# Altium footprint library Connectors.PcbLib: 81 footprints (part 1 of 6)
Each footprint in its own frame and in the unit in brackets; x right, y up, seen from the top. Pads: shape width x height; smd on the part's side, far side on the other; paste and mask are expansions set on the pad; w line width, h text height; cw(c..) or ccw(c..) is an arc to the next point about the centre after c.
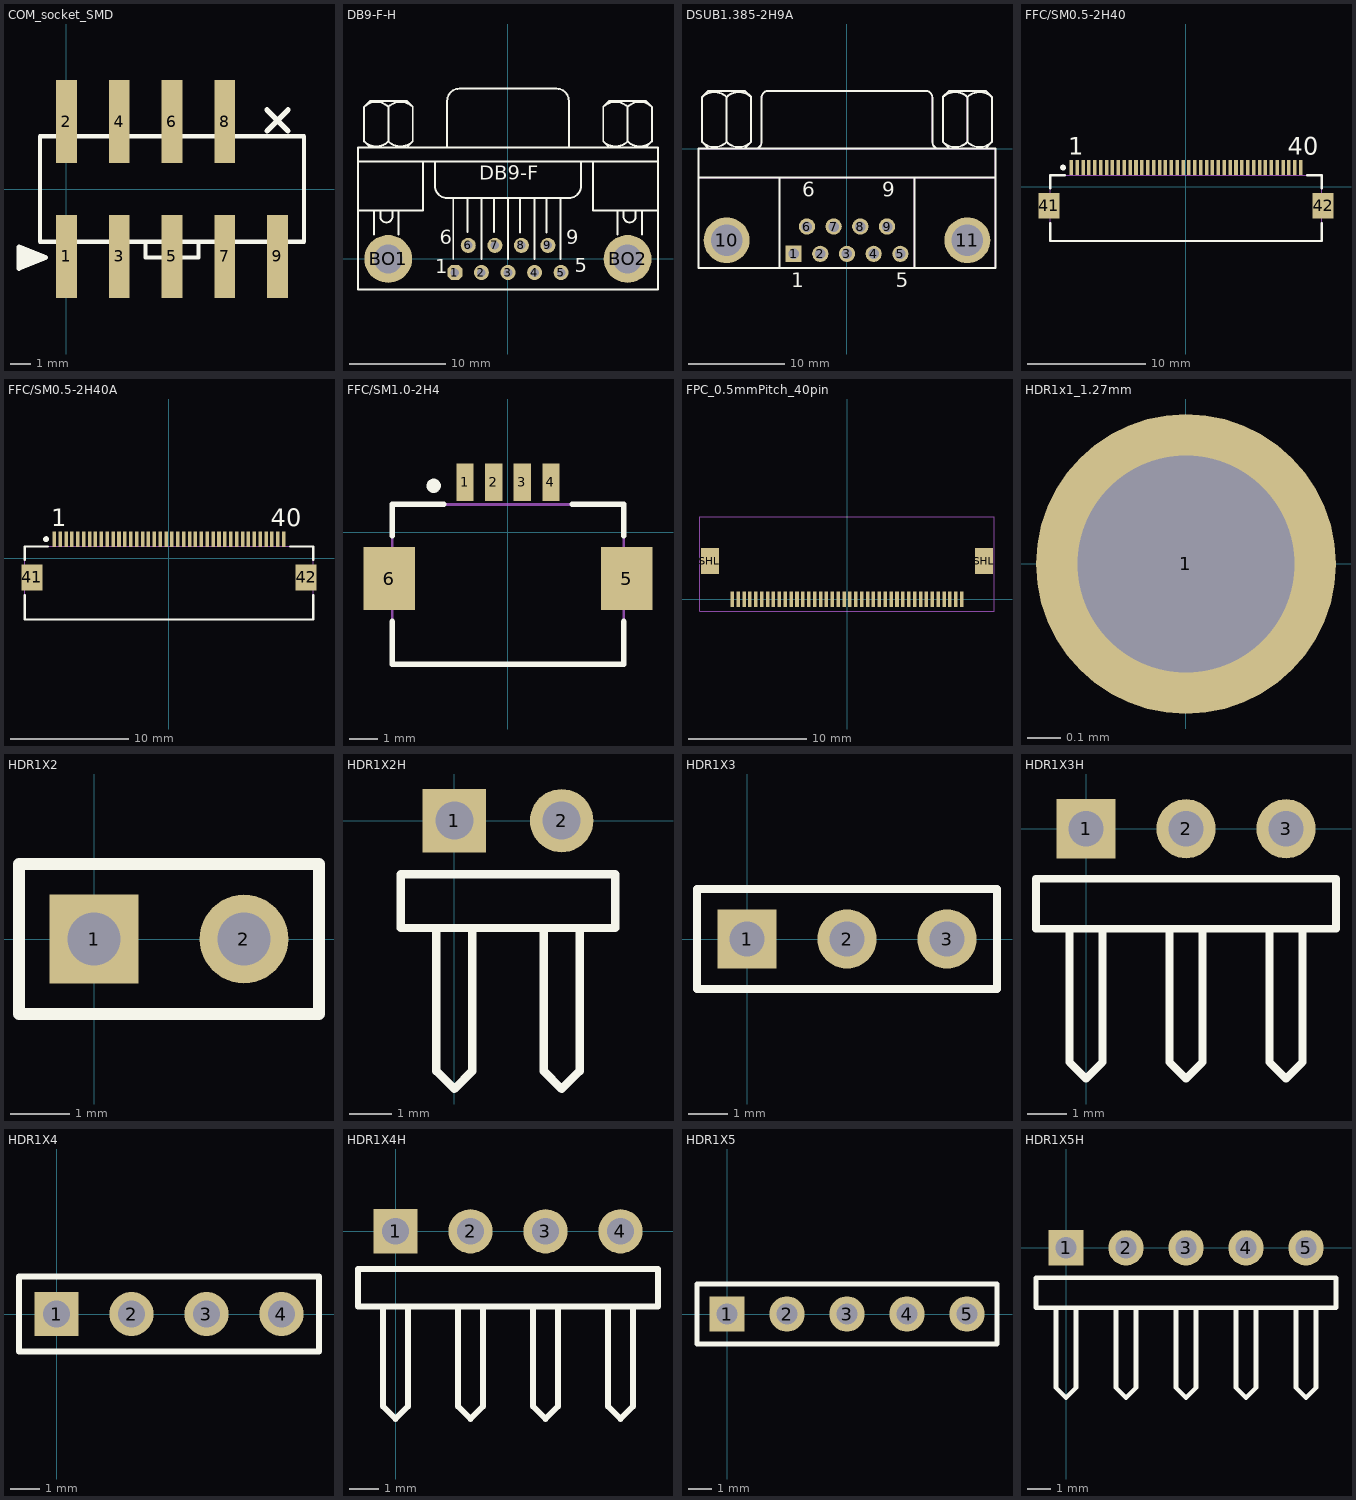
[diagram p0: the footprints below, top view; thin cyan lines are the x and y axes]

## COM_socket_SMD [mm] "surface mount 9pin serial COM socket"
pads (9):
  rect 1x4 smd: 1(0,-3.24) 2(0,3.24) 3(2.54,-3.24) 4(2.54,3.24) 5(5.08,-3.24) 6(5.08,3.24) 7(7.62,-3.24) 8(7.62,3.24) 9(10.16,-3.24)
Top Overlay:
  lines w0.2: 3.81,-2.54 3.81,-3.302 6.35,-3.302 6.35,-2.54 ; -1.27,-2.54 -1.27,2.54 11.43,2.54 11.43,-2.54 -1.27,-2.54
  lines w0.254: -2.286,-3.556 -1.016,-3.302 ; -2.286,-3.302 -1.016,-3.302 ; -2.286,-3.048 -1.016,-3.302 ; 9.652,2.794 10.668,3.81 ; 9.652,3.81 10.668,2.794 ; -1.016,-3.302 -2.286,-3.81 -2.286,-2.794 -1.016,-3.302

## DB9-F-H [mil]
pads (11):
  oct 62x62 hole 35: 1(-217.92,-55.83)
  round 62 hole 35: 2(-108.75,-55.83) 3(0.42,-55.83) 4(109.58,-55.83) 5(218.75,-55.83) 6(-162.92,55.83) 7(-53.75,55.83) 8(55.42,55.83) 9(164.58,55.83)
  round 196.67 hole 118.33: BO1(-492.08,0) BO2(492.08,0)
Top Overlay:
  lines w8: -616.25,200 -349.58,200 -349.58,400 ; -616.25,400 617.08,400 ; -591.34,483.25 ccw(c-541.25,533.33) -491.16,483.25 ; -591.34,625.09 cw(c-541.25,575) -491.16,625.09 ; -566.25,458.33 -591.25,483.33 -591.25,625 -566.25,650 -416.25,650 -391.25,625 -391.25,483.33 -416.25,458.33 ; -549.58,100 -549.58,200 ; -524.58,200 -524.58,175 ccw(c-499.58,175) -474.58,175 -474.58,200 ; -491.34,483.25 ccw(c-441.25,533.33) -391.16,483.25 ; -491.34,625.09 cw(c-441.25,575) -391.16,625.09 ; -491.25,483.33 -491.25,625 ; -449.58,100 -449.58,200 ; -299.58,400 -299.58,300 ccw(c-249.58,300) -249.58,250 250.42,250 ccw(c250.42,300) 300.42,300 300.42,400 ; -249.58,458.33 -249.58,650 cw(c-199.58,650) -199.58,700 175.42,700 200.42,700 cw(c200.42,650) 250.42,650 250.42,458.33 ; -224.58,0 -224.58,250 ; -166.25,110.24 -166.25,250 ; -107.92,0 -107.92,250 ; -57.92,110.24 -57.92,250 ; 0.42,0 0.42,250 ; 50.42,108.27 50.42,250 ; 108.75,0 108.75,250 ; 158.75,108.27 158.75,250 ; 217.08,0 217.08,250 ; 350.42,400 350.42,200 617.08,200 ; 392,483.25 ccw(c442.08,533.33) 492.17,483.25 ; 392,625.09 cw(c442.08,575) 492.17,625.09 ; 417.08,458.33 392.08,483.33 392.08,625 417.08,650 567.08,650 592.08,625 592.08,483.33 567.08,458.33 ; 450.42,100 450.42,200 ; 475.42,200 475.42,175 ccw(c500.42,175) 525.42,175 525.42,200 ; 492,483.25 ccw(c542.08,533.33) 592.17,483.25 ; 492,625.09 cw(c542.08,575) 592.17,625.09 ; 492.08,483.33 492.08,625 ; 550.42,100 550.42,200 ; -616.25,-125 -616.25,458.33 617.08,458.33 617.08,-125 -616.25,-125
  text "6" at -279.58,40 h100
  text "1" at -299.58,-80 h100
  text "5" at 275.59,-74.8 h100
  text "9" at 240.42,40 h100
  text "DB9-F" at -118.11,305.12 h100

## DSUB1.385-2H9A [mm] "Connector; D Subminiature AMPLIMITE 2000; 9 Position; Right Angle"
height 12.75
pads (11):
  rect 1.69x1.69 hole 1.09: 1(-5.54,-10.92)
  round 1.69 hole 1.09: 2(-2.77,-10.92) 3(0,-10.92) 4(2.77,-10.92) 5(5.54,-10.92) 6(-4.155,-8.08) 7(-1.385,-8.08) 8(1.385,-8.08) 9(4.155,-8.08)
  round 4.76 hole 3.26: 10(-12.495,-9.5) 11(12.495,-9.5)
Top Overlay:
  lines w0.2: -15.4,-3 15.4,-3 ; -15.038,5.35 -15.038,0.699 -14.403,0.064 ; -15.038,5.365 -14.403,6 -10.593,6 -9.958,5.365 ; -12.498,0.699 -12.498,5.35 ; -10.593,0.064 -9.958,0.699 -9.958,5.35 ; -9.958,4.086 -9.958,4.298 ; -9.56,0.005 ccw(c-9.56,0.7) -8.865,0.7 -8.865,5.3 ; -8.86,5.305 cw(c-8.165,5.305) -8.165,6 8.165,6 cw(c8.165,5.305) 8.86,5.305 ; -7,-12.4 -7,-3 ; 7,-12.4 7,-3 ; 8.865,5.3 8.865,0.7 ccw(c9.56,0.7) 9.56,0.005 ; 9.962,5.35 9.962,0.699 10.597,0.064 ; 9.962,5.365 10.597,6 14.407,6 15.042,5.365 ; 12.502,0.699 12.502,5.35 ; 14.407,0.064 15.042,0.699 15.042,5.35 ; 15.042,4.086 15.042,4.298 ; -15.4,-12.4 -15.4,0 15.4,0 15.4,-12.4 -15.4,-12.4
  lines w0.203: -15.04,0.697 ccw(c-13.768,1.969) -12.496,0.697 ; -15.038,5.35 cw(c-13.766,4.078) -12.493,5.35 ; -12.502,5.35 cw(c-11.23,4.078) -9.958,5.35 ; -12.5,0.697 ccw(c-11.228,1.969) -9.956,0.697 ; 9.96,0.697 ccw(c11.232,1.969) 12.504,0.697 ; 9.962,5.35 cw(c11.234,4.078) 12.507,5.35 ; 12.498,5.35 cw(c13.77,4.078) 15.042,5.35 ; 12.5,0.697 ccw(c13.772,1.969) 15.044,0.697
  text "1" at -5.79,-14.375 h1.5
  text "5" at 5.04,-14.375 h1.5
  text "9" at 3.655,-4.975 h1.5
  text "6" at -4.655,-4.975 h1.5
Mechanical 1:
  lines w0.1: -9.56,0.005 ccw(c-9.56,0.7) -8.865,0.7 ; -8.86,5.305 cw(c-8.165,5.305) -8.165,6 ; 8.165,6 cw(c8.165,5.305) 8.86,5.305 ; 8.865,0.7 ccw(c9.56,0.7) 9.56,0.005
Mechanical 13:
  lines w0.1: -15.4,-3 15.4,-3 ; -15.04,0.697 ccw(c-13.768,1.969) -12.496,0.697 ; -15.038,5.365 -14.403,6 -10.593,6 -9.958,5.365 ; -14.403,0.064 -15.038,0.699 -15.038,5.35 cw(c-13.766,4.078) -12.493,5.35 ; -12.502,5.35 cw(c-11.23,4.078) -9.958,5.35 -9.958,0.699 -10.593,0.064 ; -12.5,0.697 ccw(c-11.228,1.969) -9.956,0.697 ; -12.498,0.699 -12.498,5.35 ; -9.958,4.086 -9.958,4.298 ; -8.865,0.7 -8.865,5.3 ; -8.165,6 8.165,6 ; -7,-12.4 -7,-3 ; 7,-12.4 7,-3 ; 8.865,0.7 8.865,5.3 ; 9.96,0.697 ccw(c11.232,1.969) 12.504,0.697 ; 9.962,5.365 10.597,6 14.407,6 15.042,5.365 ; 10.597,0.064 9.962,0.699 9.962,5.35 cw(c11.234,4.078) 12.507,5.35 ; 12.498,5.35 cw(c13.77,4.078) 15.042,5.35 15.042,0.699 14.407,0.064 ; 12.5,0.697 ccw(c13.772,1.969) 15.044,0.697 ; 12.502,0.699 12.502,5.35 ; 15.042,4.086 15.042,4.298 ; -15.4,-12.4 -15.4,0 15.4,0 15.4,-12.4 -15.4,-12.4
3D body: height 12.75, standoff 0, extent 7.001,-12.399 15.399,-3.001
3D body: height 12.75, standoff 0, extent -15.399,-12.399 -7.001,-3.001
3D body: height 12.75, standoff 0, extent -6.999,-12.399 6.999,-3.001
3D body: height 12.75, standoff 0, extent -15.399,-2.999 15.399,-0.001
3D body: height 8.87, standoff 3.88, extent 9.953,0.064 14.934,6.064
3D body: height 8.87, standoff 3.88, extent -15.047,0.064 -10.066,6.064
3D body: height 10.87, standoff 1.88, extent -9,0 9,6

## FFC/SM0.5-2H40 [mm] "Connector; FH12 Series; 40 Position; 0.5mm Spaced Bottom Contact"
height 2
pads (42):
  rect 0.3x1.3 smd: 1(-9.75,1.625) 2(-9.25,1.625) 3(-8.75,1.625) 4(-8.25,1.625) 5(-7.75,1.625) 6(-7.25,1.625) 7(-6.75,1.625) 8(-6.25,1.625) 9(-5.75,1.625) 10(-5.25,1.625) 11(-4.75,1.625) 12(-4.25,1.625) 13(-3.75,1.625) 14(-3.25,1.625) 15(-2.75,1.625) 16(-2.25,1.625) 17(-1.75,1.625) 18(-1.25,1.625) 19(-0.75,1.625) 20(-0.25,1.625) 21(0.25,1.625) 22(0.75,1.625) 23(1.25,1.625) 24(1.75,1.625) 25(2.25,1.625) 26(2.75,1.625) 27(3.25,1.625) 28(3.75,1.625) 29(4.25,1.625) 30(4.75,1.625) 31(5.25,1.625) 32(5.75,1.625) 33(6.25,1.625) 34(6.75,1.625) 35(7.25,1.625) 36(7.75,1.625) 37(8.25,1.625) 38(8.75,1.625) 39(9.25,1.625) 40(9.75,1.625)
  rect 1.8x2.2 smd: 41(-11.65,-1.625) 42(11.65,-1.625)
Top Overlay:
  circle w0.25: c-10.45,1.625 r0.125
  lines w0.2: -11.55,-3.125 -11.55,-4.625 11.55,-4.625 11.55,-3.125 ; -11.55,-0.125 -11.55,0.975 -10.3,0.975 ; 10.3,0.975 11.55,0.975 11.55,-0.125
  text "40" at 8.65,2.725 h1.5
  text "1" at -10,2.725 h1.5
Mechanical 13:
  lines w0.1: -11.55,-4.625 11.55,-4.625 11.55,0.975 -11.55,0.975 -11.55,-4.625
3D body: height 2, standoff 0, extent -11.55,-4.625 11.55,0.975

## FFC/SM0.5-2H40A [mm] "Connector; FH12 Series; 40 Position; 0.5mm Spaced Top Contact"
height 2
pads (42):
  rect 0.3x1.3 smd: 1(-9.75,1.625) 2(-9.25,1.625) 3(-8.75,1.625) 4(-8.25,1.625) 5(-7.75,1.625) 6(-7.25,1.625) 7(-6.75,1.625) 8(-6.25,1.625) 9(-5.75,1.625) 10(-5.25,1.625) 11(-4.75,1.625) 12(-4.25,1.625) 13(-3.75,1.625) 14(-3.25,1.625) 15(-2.75,1.625) 16(-2.25,1.625) 17(-1.75,1.625) 18(-1.25,1.625) 19(-0.75,1.625) 20(-0.25,1.625) 21(0.25,1.625) 22(0.75,1.625) 23(1.25,1.625) 24(1.75,1.625) 25(2.25,1.625) 26(2.75,1.625) 27(3.25,1.625) 28(3.75,1.625) 29(4.25,1.625) 30(4.75,1.625) 31(5.25,1.625) 32(5.75,1.625) 33(6.25,1.625) 34(6.75,1.625) 35(7.25,1.625) 36(7.75,1.625) 37(8.25,1.625) 38(8.75,1.625) 39(9.25,1.625) 40(9.75,1.625)
  rect 1.8x2.2 smd: 41(-11.65,-1.625) 42(11.65,-1.625)
Top Overlay:
  circle w0.25: c-10.45,1.625 r0.125
  lines w0.2: -12.25,-3.125 -12.25,-5.2 12.25,-5.2 12.25,-3.125 ; -12.25,-0.125 -12.25,1 -10.3,1 ; 10.3,1 12.25,1 12.25,-0.125
  text "1" at -10,2.725 h1.5
  text "40" at 8.65,2.725 h1.5
Mechanical 13:
  lines w0.1: -12.25,-5.2 12.25,-5.2 12.25,1 -12.25,1 -12.25,-5.2
3D body: height 2, standoff 0, extent -12.25,-5.2 12.25,1

## FFC/SM1.0-2H4 [mm] "Connector; FH12 Series; 4 Position; 1.0mm Spaced Bottom Eccentric Contact"
height 2
pads (6):
  rect 0.6x1.3 smd: 1(-1.5,1.75) 2(-0.5,1.75) 3(0.5,1.75) 4(1.5,1.75)
  rect 1.8x2.2 smd: 5(4.15,-1.625) 6(-4.15,-1.625)
Top Overlay:
  circle w0.25: c-2.6,1.625 r0.125
  lines w0.2: -4.05,-3.125 -4.05,-4.625 4.05,-4.625 4.05,-3.125 ; -4.05,-0.125 -4.05,0.975 -2.25,0.975 ; 2.25,0.975 4.05,0.975 4.05,-0.125
Mechanical 13:
  lines w0.1: -4.05,-4.625 4.05,-4.625 4.05,0.975 -4.05,0.975 -4.05,-4.625
3D body: height 2, standoff 0, extent -4.05,-4.625 4.05,0.975

## FPC_0.5mmPitch_40pin [mm] "40pin FPC connector with 0.5mm pitch"
pads (42):
  rect 0.3x1.3 smd: 1(-9.75,0) 2(-9.25,0) 3(-8.75,0) 4(-8.25,0) 5(-7.75,0) 6(-7.25,0) 7(-6.75,0) 8(-6.25,0) 9(-5.75,0) 10(-5.25,0) 11(-4.75,0) 12(-4.25,0) 13(-3.75,0) 14(-3.25,0) 15(-2.75,0) 16(-2.25,0) 17(-1.75,0) 18(-1.25,0) 19(-0.75,0) 20(-0.25,0) 21(0.25,0) 22(0.75,0) 23(1.25,0) 24(1.75,0) 25(2.25,0) 26(2.75,0) 27(3.25,0) 28(3.75,0) 29(4.25,0) 30(4.75,0) 31(5.25,0) 32(5.75,0) 33(6.25,0) 34(6.75,0) 35(7.25,0) 36(7.75,0) 37(8.25,0) 38(8.75,0) 39(9.25,0) 40(9.75,0)
  rect 1.5x2.2 smd: SHL(-11.65,3.25) SHL(11.65,3.25)
Mechanical 15:
  lines w0.1: -12.5,-1 -12.5,7 12.5,7 12.5,-1 -12.5,-1
3D body: height 1.5, standoff 0, extent -11.55,0.7 11.55,6.3

## HDR1x1_1.27mm [mm] "1.27mm pitch"
pads (1):
  round 0.9 hole 0.65: 1(0,0)

## HDR1X2 [mm] "Connector; Header; 2 Position"
pads (2):
  rect 1.5x1.5 hole 0.9: 1(0,0)
  round 1.5 hole 0.9: 2(2.54,0)
Top Overlay:
  lines w0.2: -1.27,-1.27 3.81,-1.27 3.81,1.27 -1.27,1.27 -1.27,-1.27

## HDR1X2H [mm] "Connector; Header; 2 Position; Right Angle"
pads (2):
  rect 1.5x1.5 hole 0.9: 1(0,0)
  round 1.5 hole 0.9: 2(2.54,0)
Top Overlay:
  lines w0.2: -0.423,-2.54 -0.423,-5.927 0,-6.35 0.423,-5.927 0.423,-2.54 ; 2.117,-2.54 2.117,-5.927 2.54,-6.35 2.963,-5.927 2.963,-2.54 ; -1.27,-2.54 -1.27,-1.27 3.81,-1.27 3.81,-2.54 -1.27,-2.54

## HDR1X3 [mm] "Connector; Header; 3 Position"
pads (3):
  rect 1.5x1.5 hole 0.9: 1(0,0)
  round 1.5 hole 0.9: 2(2.54,0) 3(5.08,0)
Top Overlay:
  lines w0.2: -1.27,-1.27 -1.27,1.27 6.35,1.27 6.35,-1.27 -1.27,-1.27

## HDR1X3H [mm] "Connector; Header; 3 Position; Right Angle"
pads (3):
  rect 1.5x1.5 hole 0.9: 1(0,0)
  round 1.5 hole 0.9: 2(2.54,0) 3(5.08,0)
Top Overlay:
  lines w0.2: -0.423,-2.54 -0.423,-5.927 0,-6.35 0.423,-5.927 0.423,-2.54 ; 2.117,-2.54 2.117,-5.927 2.54,-6.35 2.963,-5.927 2.963,-2.54 ; 4.657,-2.54 4.657,-5.927 5.08,-6.35 5.503,-5.927 5.503,-2.54 ; -1.27,-2.54 6.35,-2.54 6.35,-1.27 -1.27,-1.27 -1.27,-2.54

## HDR1X4 [mm] "Connector; Header; 4 Position"
pads (4):
  rect 1.5x1.5 hole 0.9: 1(0,0)
  round 1.5 hole 0.9: 2(2.54,0) 3(5.08,0) 4(7.62,0)
Top Overlay:
  lines w0.2: -1.27,-1.27 -1.27,1.27 8.89,1.27 8.89,-1.27 -1.27,-1.27

## HDR1X4H [mm] "Connector; Header; 4 Position; Right Angle"
pads (4):
  rect 1.5x1.5 hole 0.9: 1(0,0)
  round 1.5 hole 0.9: 2(2.54,0) 3(5.08,0) 4(7.62,0)
Top Overlay:
  lines w0.2: -0.423,-2.54 -0.423,-5.927 0,-6.35 0.423,-5.927 0.423,-2.54 ; 2.117,-2.54 2.117,-5.927 2.54,-6.35 2.963,-5.927 2.963,-2.54 ; 4.657,-2.54 4.657,-5.927 5.08,-6.35 5.503,-5.927 5.503,-2.54 ; 7.197,-2.54 7.197,-5.927 7.62,-6.35 8.043,-5.927 8.043,-2.54 ; -1.27,-2.54 8.89,-2.54 8.89,-1.27 -1.27,-1.27 -1.27,-2.54

## HDR1X5 [mm] "Connector; Header; 5 Position"
pads (5):
  rect 1.5x1.5 hole 0.9: 1(0,0)
  round 1.5 hole 0.9: 2(2.54,0) 3(5.08,0) 4(7.62,0) 5(10.16,0)
Top Overlay:
  lines w0.2: -1.27,-1.27 11.43,-1.27 11.43,1.27 -1.27,1.27 -1.27,-1.27

## HDR1X5H [mm] "Connector; Header; 5 Position; Right Angle"
pads (5):
  rect 1.5x1.5 hole 0.9: 1(0,0)
  round 1.5 hole 0.9: 2(2.54,0) 3(5.08,0) 4(7.62,0) 5(10.16,0)
Top Overlay:
  lines w0.2: -0.423,-2.54 -0.423,-5.927 0,-6.35 0.423,-5.927 0.423,-2.54 ; 2.117,-2.54 2.117,-5.927 2.54,-6.35 2.963,-5.927 2.963,-2.54 ; 4.657,-2.54 4.657,-5.927 5.08,-6.35 5.503,-5.927 5.503,-2.54 ; 7.197,-2.54 7.197,-5.927 7.62,-6.35 8.043,-5.927 8.043,-2.54 ; 9.737,-2.54 9.737,-5.927 10.16,-6.35 10.583,-5.927 10.583,-2.54 ; -1.27,-2.54 11.43,-2.54 11.43,-1.27 -1.27,-1.27 -1.27,-2.54